# EAGLE library part TRAM8 (library Transputers)
TRAM size-8 board INMOS Standard Transputer Boards Source: The Transputer development and iq systems Databook 1991. Arto Kyyhkynen, artoky@dlc.fi
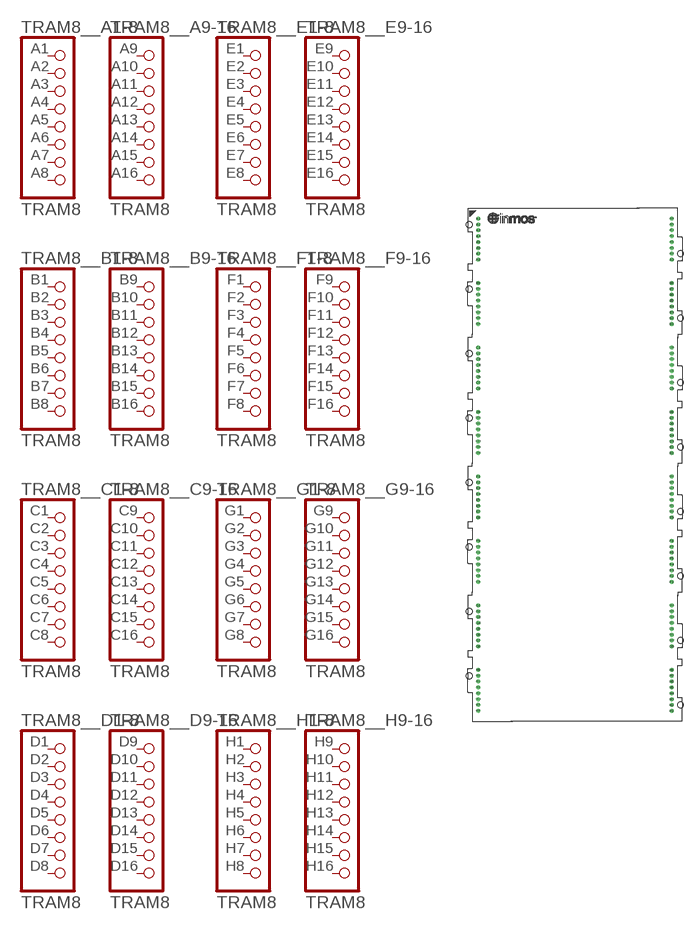
[diagram p15: symbol with the pads of TRAM_SIZE8; footprint TRAM_SIZE8]

Designator prefix TRAM8_; gates _A1-8=TRAM1PINS _A9-16=TRAM1PINS _B1-8=TRAM1PINS _B9-16=TRAM1PINS _C1-8=TRAM1PINS _C9-16=TRAM1PINS _D1-8=TRAM1PINS _D9-16=TRAM1PINS _E1-8=TRAM1PINS _E9-16=TRAM1PINS _F1-8=TRAM1PINS _F9-16=TRAM1PINS _G1-8=TRAM1PINS _G9-16=TRAM1PINS _H1-8=TRAM1PINS _H9-16=TRAM1PINS

## TRAM8  [TRAM_SIZE8]
A1  _A1-8:1  pas
A2  _A1-8:2  pas
A3  _A1-8:3  pas
A4  _A1-8:4  pas
A5  _A1-8:5  pas
A6  _A1-8:6  pas
A7  _A1-8:7  pas
A8  _A1-8:8  pas
A9  _A9-16:1  pas
A10  _A9-16:2  pas
A11  _A9-16:3  pas
A12  _A9-16:4  pas
A13  _A9-16:5  pas
A14  _A9-16:6  pas
A15  _A9-16:7  pas
A16  _A9-16:8  pas
B1  _B1-8:1  pas
B2  _B1-8:2  pas
B3  _B1-8:3  pas
B4  _B1-8:4  pas
B5  _B1-8:5  pas
B6  _B1-8:6  pas
B7  _B1-8:7  pas
B8  _B1-8:8  pas
B9  _B9-16:1  pas
B10  _B9-16:2  pas
B11  _B9-16:3  pas
B12  _B9-16:4  pas
B13  _B9-16:5  pas
B14  _B9-16:6  pas
B15  _B9-16:7  pas
B16  _B9-16:8  pas
C1  _C1-8:1  pas
C2  _C1-8:2  pas
C3  _C1-8:3  pas
C4  _C1-8:4  pas
C5  _C1-8:5  pas
C6  _C1-8:6  pas
C7  _C1-8:7  pas
C8  _C1-8:8  pas
C9  _C9-16:1  pas
C10  _C9-16:2  pas
C11  _C9-16:3  pas
C12  _C9-16:4  pas
C13  _C9-16:5  pas
C14  _C9-16:6  pas
C15  _C9-16:7  pas
C16  _C9-16:8  pas
D1  _D1-8:1  pas
D2  _D1-8:2  pas
D3  _D1-8:3  pas
D4  _D1-8:4  pas
D5  _D1-8:5  pas
D6  _D1-8:6  pas
D7  _D1-8:7  pas
D8  _D1-8:8  pas
D9  _D9-16:1  pas
D10  _D9-16:2  pas
D11  _D9-16:3  pas
D12  _D9-16:4  pas
D13  _D9-16:5  pas
D14  _D9-16:6  pas
D15  _D9-16:7  pas
D16  _D9-16:8  pas
E1  _E1-8:1  pas
E2  _E1-8:2  pas
E3  _E1-8:3  pas
E4  _E1-8:4  pas
E5  _E1-8:5  pas
E6  _E1-8:6  pas
E7  _E1-8:7  pas
E8  _E1-8:8  pas
E9  _E9-16:1  pas
E10  _E9-16:2  pas
E11  _E9-16:3  pas
E12  _E9-16:4  pas
E13  _E9-16:5  pas
E14  _E9-16:6  pas
E15  _E9-16:7  pas
E16  _E9-16:8  pas
F1  _F1-8:1  pas
F2  _F1-8:2  pas
F3  _F1-8:3  pas
F4  _F1-8:4  pas
F5  _F1-8:5  pas
F6  _F1-8:6  pas
F7  _F1-8:7  pas
F8  _F1-8:8  pas
F9  _F9-16:1  pas
F10  _F9-16:2  pas
F11  _F9-16:3  pas
F12  _F9-16:4  pas
F13  _F9-16:5  pas
F14  _F9-16:6  pas
F15  _F9-16:7  pas
F16  _F9-16:8  pas
G1  _G1-8:1  pas
G2  _G1-8:2  pas
G3  _G1-8:3  pas
G4  _G1-8:4  pas
G5  _G1-8:5  pas
G6  _G1-8:6  pas
G7  _G1-8:7  pas
G8  _G1-8:8  pas
G9  _G9-16:1  pas
G10  _G9-16:2  pas
G11  _G9-16:3  pas
G12  _G9-16:4  pas
G13  _G9-16:5  pas
G14  _G9-16:6  pas
G15  _G9-16:7  pas
G16  _G9-16:8  pas
H1  _H1-8:1  pas
H2  _H1-8:2  pas
H3  _H1-8:3  pas
H4  _H1-8:4  pas
H5  _H1-8:5  pas
H6  _H1-8:6  pas
H7  _H1-8:7  pas
H8  _H1-8:8  pas
H9  _H9-16:1  pas
H10  _H9-16:2  pas
H11  _H9-16:3  pas
H12  _H9-16:4  pas
H13  _H9-16:5  pas
H14  _H9-16:6  pas
H15  _H9-16:7  pas
H16  _H9-16:8  pas

## Footprint TRAM_SIZE8 (pad centres in mm)
TRAM size-8
drill 1.143 pad 1.676 round: A1 0,0; A2 0,-2.54; A3 0,-5.08; A4 0,-7.62; A5 0,-10.16; A6 0,-12.7; A7 0,-15.24; A8 0,-17.78; A9 83.82,-17.78; A10 83.82,-15.24; A11 83.82,-12.7; A12 83.82,-10.16; A13 83.82,-7.62; A14 83.82,-5.08; A15 83.82,-2.54; A16 83.82,0; B1 83.82,-45.72; B2 83.82,-43.18; B3 83.82,-40.64; B4 83.82,-38.1; B5 83.82,-35.56; B6 83.82,-33.02; B7 83.82,-30.48; B8 83.82,-27.94; B9 0,-27.94; B10 0,-30.48; B11 0,-33.02; B12 0,-35.56; B13 0,-38.1; B14 0,-40.64; B15 0,-43.18; B16 0,-45.72; C1 0,-55.88; C2 0,-58.42; C3 0,-60.96; C4 0,-63.5; C5 0,-66.04; C6 0,-68.58; C7 0,-71.12; C8 0,-73.66; C9 83.82,-73.66; C10 83.82,-71.12; C11 83.82,-68.58; C12 83.82,-66.04; C13 83.82,-63.5; C14 83.82,-60.96; C15 83.82,-58.42; C16 83.82,-55.88; D1 83.82,-101.6; D2 83.82,-99.06; D3 83.82,-96.52; D4 83.82,-93.98; D5 83.82,-91.44; D6 83.82,-88.9; D7 83.82,-86.36; D8 83.82,-83.82; D9 0,-83.82; D10 0,-86.36; D11 0,-88.9; D12 0,-91.44; D13 0,-93.98; D14 0,-96.52; D15 0,-99.06; D16 0,-101.6; E1 0,-111.76; E2 0,-114.3; E3 0,-116.84; E4 0,-119.38; E5 0,-121.92; E6 0,-124.46; E7 0,-127; E8 0,-129.54; E9 83.82,-129.54; E10 83.82,-127; E11 83.82,-124.46; E12 83.82,-121.92; E13 83.82,-119.38; E14 83.82,-116.84; E15 83.82,-114.3; E16 83.82,-111.76; F1 83.82,-157.48; F2 83.82,-154.94; F3 83.82,-152.4; F4 83.82,-149.86; F5 83.82,-147.32; F6 83.82,-144.78; F7 83.82,-142.24; F8 83.82,-139.7; F9 0,-139.7; F10 0,-142.24; F11 0,-144.78; F12 0,-147.32; F13 0,-149.86; F14 0,-152.4; F15 0,-154.94; F16 0,-157.48; G1 0,-167.64; G2 0,-170.18; G3 0,-172.72; G4 0,-175.26; G5 0,-177.8; G6 0,-180.34; G7 0,-182.88; G8 0,-185.42; G9 83.82,-185.42; G10 83.82,-182.88; G11 83.82,-180.34; G12 83.82,-177.8; G13 83.82,-175.26; G14 83.82,-172.72; G15 83.82,-170.18; G16 83.82,-167.64; H1 83.82,-213.36; H2 83.82,-210.82; H3 83.82,-208.28; H4 83.82,-205.74; H5 83.82,-203.2; H6 83.82,-200.66; H7 83.82,-198.12; H8 83.82,-195.58; H9 0,-195.58; H10 0,-198.12; H11 0,-200.66; H12 0,-203.2; H13 0,-205.74; H14 0,-208.28; H15 0,-210.82; H16 0,-213.36
hole 2.54 at -3.81,-2.54
hole 2.54 at -3.81,-30.48
hole 2.54 at -3.81,-58.42
hole 2.54 at -3.81,-86.36
hole 2.54 at -3.81,-114.3
hole 2.54 at -3.81,-142.24
hole 2.54 at -3.81,-170.18
hole 2.54 at -3.81,-198.12
hole 2.54 at 87.63,-210.82
hole 2.54 at 87.63,-182.88
hole 2.54 at 87.63,-154.94
hole 2.54 at 87.63,-127
hole 2.54 at 87.63,-99.06
hole 2.54 at 87.63,-71.12
hole 2.54 at 87.63,-43.18
hole 2.54 at 87.63,-15.24